# Altium footprint library Connector_JST.PcbLib: 558 footprints (part 31 of 35)
Each footprint in its own frame and in the unit in brackets; x right, y up, seen from the top. Pads: shape width x height; smd on the part's side, far side on the other; paste and mask are expansions set on the pad; w line width, h text height; cw(c..) or ccw(c..) is an arc to the next point about the centre after c.
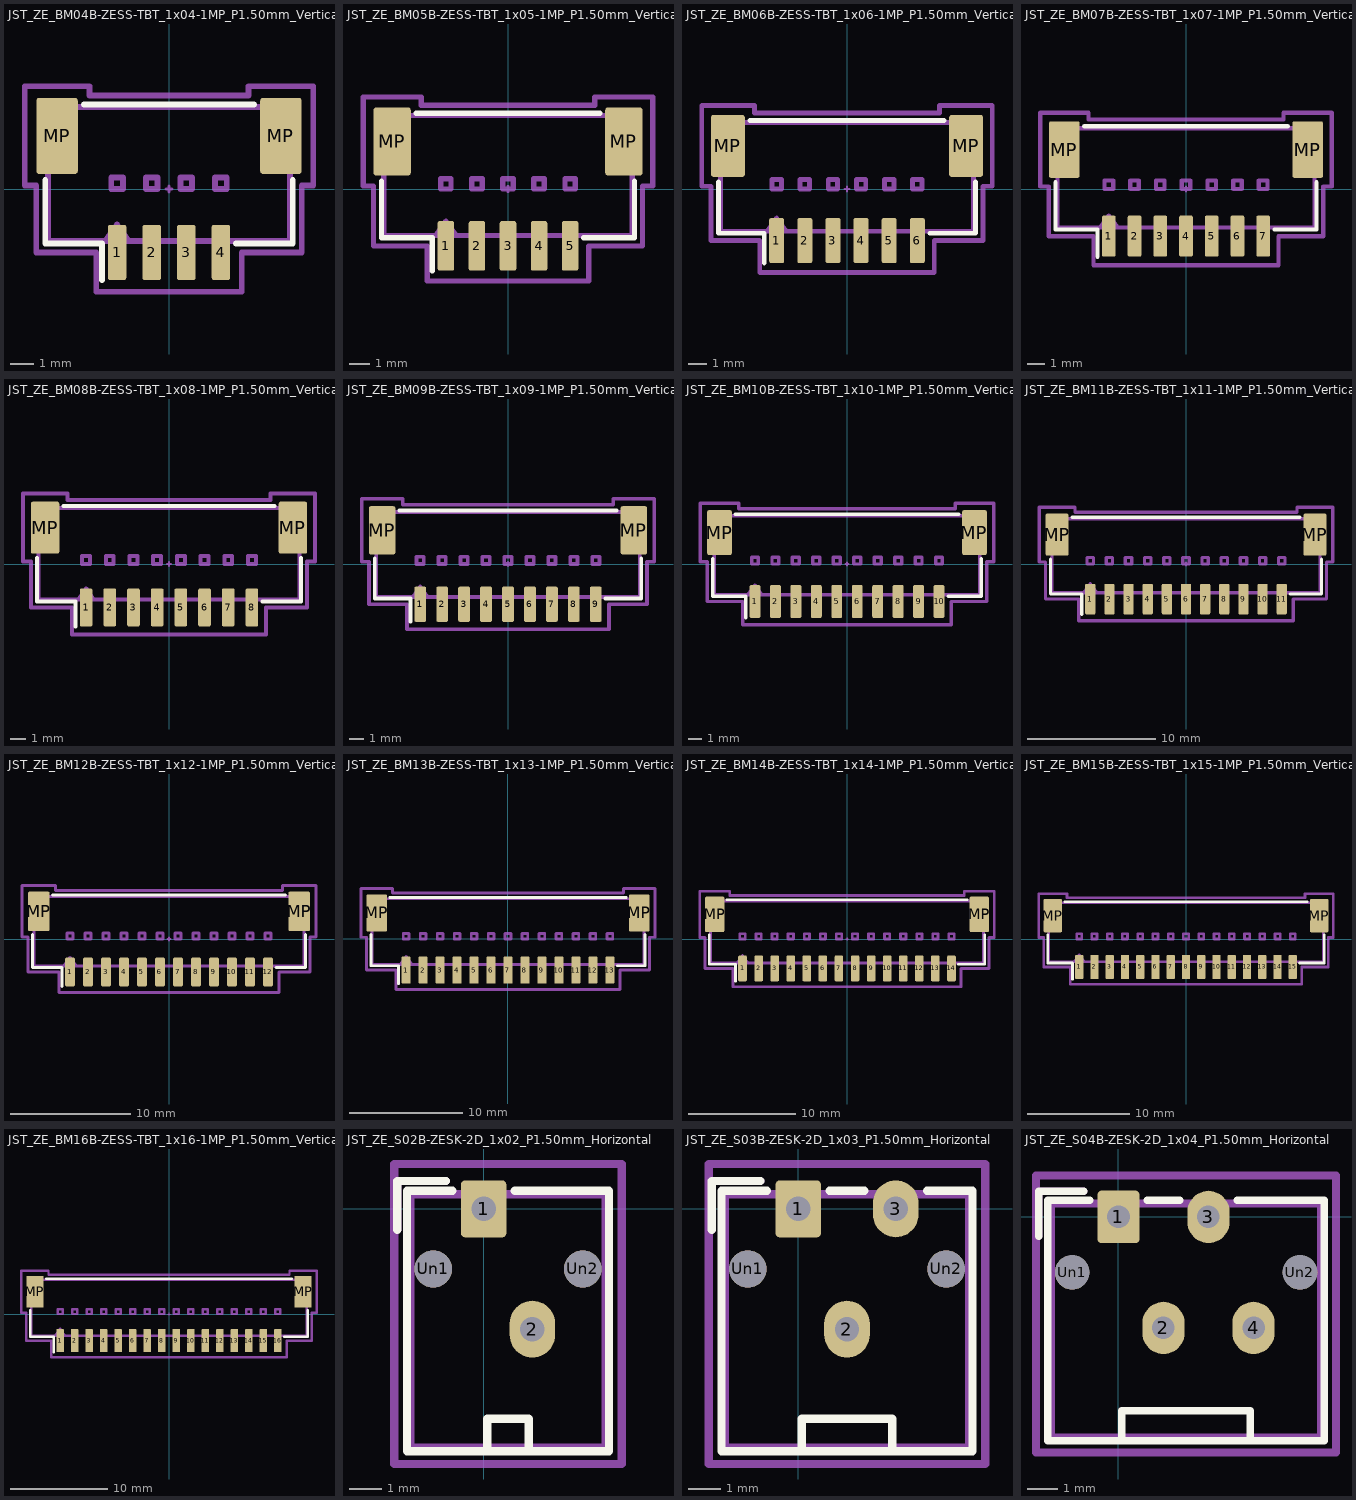
[diagram p30: the footprints below, top view; thin cyan lines are the x and y axes]

## JST_ZE_BM04B-ZESS-TBT_1x04-1MP_P1.50mm_Vertical [mm] "JST_ZE_BM04B-ZESS-TBT_1x04-1MP_P1.50mm_Vertical"
pads (6):
  rrect25% 0.8x2.4 smd: 1(-2.25,-2.75) 2(-0.75,-2.75) 3(0.75,-2.75) 4(2.25,-2.75)
  rrect14% 1.8x3.3 smd: MP(-4.85,2.3) MP(4.85,2.3)
F.SilkS:
  lines w0.254: -5.36,0.39 -5.36,-2.36 -2.91,-2.36 -2.91,-3.95 ; -3.69,3.66 3.69,3.66 ; 2.91,-2.36 5.36,-2.36 5.36,0.39
Top Component Center:
  lines w0.127: -0.127,0 0.127,0 ; 0,-0.127 0,0.127
Top Assembly:
  lines w0.254: -2.75,-2.25 -2.25,-1.543 -1.75,-2.25 ; -5.25,-2.25 -5.25,3.55 5.25,3.55 5.25,-2.25 -5.25,-2.25 ; -2.5,0 -2.5,0.5 -2,0.5 -2,0 -2.5,0 ; -1,0 -1,0.5 -0.5,0.5 -0.5,0 -1,0 ; 0.5,0 0.5,0.5 1,0.5 1,0 0.5,0 ; 2,0 2,0.5 2.5,0.5 2.5,0 2,0
Top Courtyard:
  lines w0.254: -6.25,0.15 -6.25,4.45 -3.44,4.45 -3.44,4.05 3.44,4.05 3.44,4.45 6.25,4.45 6.25,0.15 5.75,0.15 5.75,-2.75 3.15,-2.75 3.15,-4.45 -3.15,-4.45 -3.15,-2.75 -5.75,-2.75 -5.75,0.15 -6.25,0.15
Top Designator:
  text ".Designator" at -3.43,1.561 h1.52

## JST_ZE_BM05B-ZESS-TBT_1x05-1MP_P1.50mm_Vertical [mm] "JST_ZE_BM05B-ZESS-TBT_1x05-1MP_P1.50mm_Vertical"
pads (7):
  rrect25% 0.8x2.4 smd: 1(-3,-2.75) 2(-1.5,-2.75) 3(0,-2.75) 4(1.5,-2.75) 5(3,-2.75)
  rrect14% 1.8x3.3 smd: MP(-5.6,2.3) MP(5.6,2.3)
F.SilkS:
  lines w0.254: -6.11,0.39 -6.11,-2.36 -3.66,-2.36 -3.66,-3.95 ; -4.44,3.66 4.44,3.66 ; 3.66,-2.36 6.11,-2.36 6.11,0.39
Top Component Center:
  lines w0.127: -0.127,0 0.127,0 ; 0,-0.127 0,0.127
Top Assembly:
  lines w0.254: -3.5,-2.25 -3,-1.543 -2.5,-2.25 ; -6,-2.25 6,-2.25 6,3.55 -6,3.55 -6,-2.25 ; -3.25,0 -2.75,0 -2.75,0.5 -3.25,0.5 -3.25,0 ; -1.75,0 -1.25,0 -1.25,0.5 -1.75,0.5 -1.75,0 ; -0.25,0 0.25,0 0.25,0.5 -0.25,0.5 -0.25,0 ; 1.25,0 1.75,0 1.75,0.5 1.25,0.5 1.25,0 ; 2.75,0 3.25,0 3.25,0.5 2.75,0.5 2.75,0
Top Courtyard:
  lines w0.254: -7,0.15 -6.5,0.15 -6.5,-2.75 -3.9,-2.75 -3.9,-4.45 3.9,-4.45 3.9,-2.75 6.5,-2.75 6.5,0.15 7,0.15 7,4.45 4.19,4.45 4.19,4.05 -4.19,4.05 -4.19,4.45 -7,4.45 -7,0.15
Top Designator:
  text ".Designator" at -3.303,1.307 h1.52

## JST_ZE_BM06B-ZESS-TBT_1x06-1MP_P1.50mm_Vertical [mm] "JST_ZE_BM06B-ZESS-TBT_1x06-1MP_P1.50mm_Vertical"
pads (8):
  rrect25% 0.8x2.4 smd: 1(-3.75,-2.75) 2(-2.25,-2.75) 3(-0.75,-2.75) 4(0.75,-2.75) 5(2.25,-2.75) 6(3.75,-2.75)
  rrect14% 1.8x3.3 smd: MP(-6.35,2.3) MP(6.35,2.3)
F.SilkS:
  lines w0.254: -6.86,0.39 -6.86,-2.36 -4.41,-2.36 -4.41,-3.95 ; -5.19,3.66 5.19,3.66 ; 4.41,-2.36 6.86,-2.36 6.86,0.39
Top Component Center:
  lines w0.127: -0.127,0 0.127,0 ; 0,-0.127 0,0.127
Top Assembly:
  lines w0.254: -4.25,-2.25 -3.75,-1.543 -3.25,-2.25 ; -6.75,-2.25 6.75,-2.25 6.75,3.55 -6.75,3.55 -6.75,-2.25 ; -4,0 -3.5,0 -3.5,0.5 -4,0.5 -4,0 ; -2.5,0 -2,0 -2,0.5 -2.5,0.5 -2.5,0 ; -1,0 -0.5,0 -0.5,0.5 -1,0.5 -1,0 ; 0.5,0 1,0 1,0.5 0.5,0.5 0.5,0 ; 2,0 2.5,0 2.5,0.5 2,0.5 2,0 ; 3.5,0 4,0 4,0.5 3.5,0.5 3.5,0
Top Courtyard:
  lines w0.254: -7.75,0.15 -7.25,0.15 -7.25,-2.75 -4.65,-2.75 -4.65,-4.45 4.65,-4.45 4.65,-2.75 7.25,-2.75 7.25,0.15 7.75,0.15 7.75,4.45 4.94,4.45 4.94,4.05 -4.94,4.05 -4.94,4.45 -7.75,4.45 -7.75,0.15
Top Designator:
  text ".Designator" at -3.43,1.688 h1.52

## JST_ZE_BM07B-ZESS-TBT_1x07-1MP_P1.50mm_Vertical [mm] "JST_ZE_BM07B-ZESS-TBT_1x07-1MP_P1.50mm_Vertical"
pads (9):
  rrect25% 0.8x2.4 smd: 1(-4.5,-2.75) 2(-3,-2.75) 3(-1.5,-2.75) 4(0,-2.75) 5(1.5,-2.75) 6(3,-2.75) 7(4.5,-2.75)
  rrect14% 1.8x3.3 smd: MP(-7.1,2.3) MP(7.1,2.3)
F.SilkS:
  lines w0.254: -7.61,0.39 -7.61,-2.36 -5.16,-2.36 -5.16,-3.95 ; -5.94,3.66 5.94,3.66 ; 5.16,-2.36 7.61,-2.36 7.61,0.39
Top Component Center:
  lines w0.127: -0.127,0 0.127,0 ; 0,-0.127 0,0.127
Top Assembly:
  lines w0.254: -5,-2.25 -4.5,-1.543 -4,-2.25 ; -7.5,-2.25 7.5,-2.25 7.5,3.55 -7.5,3.55 -7.5,-2.25 ; -4.75,0 -4.25,0 -4.25,0.5 -4.75,0.5 -4.75,0 ; -3.25,0 -2.75,0 -2.75,0.5 -3.25,0.5 -3.25,0 ; -1.75,0 -1.25,0 -1.25,0.5 -1.75,0.5 -1.75,0 ; -0.25,0 0.25,0 0.25,0.5 -0.25,0.5 -0.25,0 ; 1.25,0 1.25,0.5 1.75,0.5 1.75,0 1.25,0 ; 2.75,0 3.25,0 3.25,0.5 2.75,0.5 2.75,0 ; 4.25,0 4.75,0 4.75,0.5 4.25,0.5 4.25,0
Top Courtyard:
  lines w0.254: -8.5,0.15 -8,0.15 -8,-2.75 -5.4,-2.75 -5.4,-4.45 5.4,-4.45 5.4,-2.75 8,-2.75 8,0.15 8.5,0.15 8.5,4.45 5.69,4.45 5.69,4.05 -5.69,4.05 -5.69,4.45 -8.5,4.45 -8.5,0.15
Top Designator:
  text ".Designator" at -3.303,1.561 h1.52

## JST_ZE_BM08B-ZESS-TBT_1x08-1MP_P1.50mm_Vertical [mm] "JST_ZE_BM08B-ZESS-TBT_1x08-1MP_P1.50mm_Vertical"
pads (10):
  rrect25% 0.8x2.4 smd: 1(-5.25,-2.75) 2(-3.75,-2.75) 3(-2.25,-2.75) 4(-0.75,-2.75) 5(0.75,-2.75) 6(2.25,-2.75) 7(3.75,-2.75) 8(5.25,-2.75)
  rrect14% 1.8x3.3 smd: MP(-7.85,2.3) MP(7.85,2.3)
F.SilkS:
  lines w0.254: -8.36,0.39 -8.36,-2.36 -5.91,-2.36 -5.91,-3.95 ; -6.69,3.66 6.69,3.66 ; 5.91,-2.36 8.36,-2.36 8.36,0.39
Top Component Center:
  lines w0.127: -0.127,0 0.127,0 ; 0,-0.127 0,0.127
Top Assembly:
  lines w0.254: -5.75,-2.25 -5.25,-1.543 -4.75,-2.25 ; -8.25,-2.25 8.25,-2.25 8.25,3.55 -8.25,3.55 -8.25,-2.25 ; -5.5,0 -5,0 -5,0.5 -5.5,0.5 -5.5,0 ; -4,0 -3.5,0 -3.5,0.5 -4,0.5 -4,0 ; -2.5,0 -2,0 -2,0.5 -2.5,0.5 -2.5,0 ; -1,0 -0.5,0 -0.5,0.5 -1,0.5 -1,0 ; 0.5,0 1,0 1,0.5 0.5,0.5 0.5,0 ; 2,0 2.5,0 2.5,0.5 2,0.5 2,0 ; 3.5,0 4,0 4,0.5 3.5,0.5 3.5,0 ; 5,0 5.5,0 5.5,0.5 5,0.5 5,0
Top Courtyard:
  lines w0.254: -9.25,0.15 -8.75,0.15 -8.75,-2.75 -6.15,-2.75 -6.15,-4.45 6.15,-4.45 6.15,-2.75 8.75,-2.75 8.75,0.15 9.25,0.15 9.25,4.45 6.44,4.45 6.44,4.05 -6.44,4.05 -6.44,4.45 -9.25,4.45 -9.25,0.15
Top Designator:
  text ".Designator" at -3.557,1.688 h1.52

## JST_ZE_BM09B-ZESS-TBT_1x09-1MP_P1.50mm_Vertical [mm] "JST_ZE_BM09B-ZESS-TBT_1x09-1MP_P1.50mm_Vertical"
pads (11):
  rrect25% 0.8x2.4 smd: 1(-6,-2.75) 2(-4.5,-2.75) 3(-3,-2.75) 4(-1.5,-2.75) 5(0,-2.75) 6(1.5,-2.75) 7(3,-2.75) 8(4.5,-2.75) 9(6,-2.75)
  rrect14% 1.8x3.3 smd: MP(-8.6,2.3) MP(8.6,2.3)
F.SilkS:
  lines w0.254: -9.11,0.39 -9.11,-2.36 -6.66,-2.36 -6.66,-3.95 ; -7.44,3.66 7.44,3.66 ; 6.66,-2.36 9.11,-2.36 9.11,0.39
Top Component Center:
  lines w0.127: -0.127,0 0.127,0 ; 0,-0.127 0,0.127
Top Assembly:
  lines w0.254: -6.5,-2.25 -6,-1.543 -5.5,-2.25 ; -9,-2.25 9,-2.25 9,3.55 -9,3.55 -9,-2.25 ; -6.25,0 -5.75,0 -5.75,0.5 -6.25,0.5 -6.25,0 ; -4.75,0 -4.25,0 -4.25,0.5 -4.75,0.5 -4.75,0 ; -3.25,0 -2.75,0 -2.75,0.5 -3.25,0.5 -3.25,0 ; -1.75,0 -1.25,0 -1.25,0.5 -1.75,0.5 -1.75,0 ; -0.25,0 0.25,0 0.25,0.5 -0.25,0.5 -0.25,0 ; 1.25,0 1.75,0 1.75,0.5 1.25,0.5 1.25,0 ; 2.75,0 3.25,0 3.25,0.5 2.75,0.5 2.75,0 ; 4.25,0 4.75,0 4.75,0.5 4.25,0.5 4.25,0 ; 5.75,0 6.25,0 6.25,0.5 5.75,0.5 5.75,0
Top Courtyard:
  lines w0.254: -10,0.15 -9.5,0.15 -9.5,-2.75 -6.9,-2.75 -6.9,-4.45 6.9,-4.45 6.9,-2.75 9.5,-2.75 9.5,0.15 10,0.15 10,4.45 7.19,4.45 7.19,4.05 -7.19,4.05 -7.19,4.45 -10,4.45 -10,0.15
Top Designator:
  text ".Designator" at -3.303,1.434 h1.52

## JST_ZE_BM10B-ZESS-TBT_1x10-1MP_P1.50mm_Vertical [mm] "JST_ZE_BM10B-ZESS-TBT_1x10-1MP_P1.50mm_Vertical"
pads (12):
  rrect25% 0.8x2.4 smd: 1(-6.75,-2.75) 2(-5.25,-2.75) 3(-3.75,-2.75) 4(-2.25,-2.75) 5(-0.75,-2.75) 6(0.75,-2.75) 7(2.25,-2.75) 8(3.75,-2.75) 9(5.25,-2.75) 10(6.75,-2.75)
  rrect14% 1.8x3.3 smd: MP(-9.35,2.3) MP(9.35,2.3)
F.SilkS:
  lines w0.254: -9.86,0.39 -9.86,-2.36 -7.41,-2.36 -7.41,-3.95 ; -8.19,3.66 8.19,3.66 ; 7.41,-2.36 9.86,-2.36 9.86,0.39
Top Component Center:
  lines w0.127: -0.127,0 0.127,0 ; 0,-0.127 0,0.127
Top Assembly:
  lines w0.254: -7.25,-2.25 -6.75,-1.543 -6.25,-2.25 ; -9.75,-2.25 -9.75,3.55 9.75,3.55 9.75,-2.25 -9.75,-2.25 ; -7,0 -7,0.5 -6.5,0.5 -6.5,0 -7,0 ; -5.5,0 -5.5,0.5 -5,0.5 -5,0 -5.5,0 ; -4,0 -4,0.5 -3.5,0.5 -3.5,0 -4,0 ; -2.5,0 -2.5,0.5 -2,0.5 -2,0 -2.5,0 ; -1,0 -1,0.5 -0.5,0.5 -0.5,0 -1,0 ; 0.5,0 0.5,0.5 1,0.5 1,0 0.5,0 ; 2,0 2,0.5 2.5,0.5 2.5,0 2,0 ; 3.5,0 3.5,0.5 4,0.5 4,0 3.5,0 ; 5,0 5,0.5 5.5,0.5 5.5,0 5,0 ; 6.5,0 6.5,0.5 7,0.5 7,0 6.5,0
Top Courtyard:
  lines w0.254: -10.75,0.15 -10.75,4.45 -7.94,4.45 -7.94,4.05 7.94,4.05 7.94,4.45 10.75,4.45 10.75,0.15 10.25,0.15 10.25,-2.75 7.65,-2.75 7.65,-4.45 -7.65,-4.45 -7.65,-2.75 -10.25,-2.75 -10.25,0.15 -10.75,0.15
Top Designator:
  text ".Designator" at -3.684,1.815 h1.52

## JST_ZE_BM11B-ZESS-TBT_1x11-1MP_P1.50mm_Vertical [mm] "JST_ZE_BM11B-ZESS-TBT_1x11-1MP_P1.50mm_Vertical"
pads (13):
  rrect25% 0.8x2.4 smd: 1(-7.5,-2.75) 2(-6,-2.75) 3(-4.5,-2.75) 4(-3,-2.75) 5(-1.5,-2.75) 6(0,-2.75) 7(1.5,-2.75) 8(3,-2.75) 9(4.5,-2.75) 10(6,-2.75) 11(7.5,-2.75)
  rrect14% 1.8x3.3 smd: MP(-10.1,2.3) MP(10.1,2.3)
F.SilkS:
  lines w0.254: -10.61,0.39 -10.61,-2.36 -8.16,-2.36 -8.16,-3.95 ; -8.94,3.66 8.94,3.66 ; 8.16,-2.36 10.61,-2.36 10.61,0.39
Top Component Center:
  lines w0.127: -0.127,0 0.127,0 ; 0,-0.127 0,0.127
Top Assembly:
  lines w0.254: -8,-2.25 -7.5,-1.543 -7,-2.25 ; -10.5,-2.25 10.5,-2.25 10.5,3.55 -10.5,3.55 -10.5,-2.25 ; -7.75,0 -7.25,0 -7.25,0.5 -7.75,0.5 -7.75,0 ; -6.25,0 -5.75,0 -5.75,0.5 -6.25,0.5 -6.25,0 ; -4.75,0 -4.25,0 -4.25,0.5 -4.75,0.5 -4.75,0 ; -3.25,0 -2.75,0 -2.75,0.5 -3.25,0.5 -3.25,0 ; -1.75,0 -1.25,0 -1.25,0.5 -1.75,0.5 -1.75,0 ; -0.25,0 0.25,0 0.25,0.5 -0.25,0.5 -0.25,0 ; 1.25,0 1.75,0 1.75,0.5 1.25,0.5 1.25,0 ; 2.75,0 3.25,0 3.25,0.5 2.75,0.5 2.75,0 ; 4.25,0 4.75,0 4.75,0.5 4.25,0.5 4.25,0 ; 5.75,0 6.25,0 6.25,0.5 5.75,0.5 5.75,0 ; 7.25,0 7.75,0 7.75,0.5 7.25,0.5 7.25,0
Top Courtyard:
  lines w0.254: -11.5,0.15 -11,0.15 -11,-2.75 -8.4,-2.75 -8.4,-4.45 8.4,-4.45 8.4,-2.75 11,-2.75 11,0.15 11.5,0.15 11.5,4.45 8.7,4.45 8.7,4.05 -8.7,4.05 -8.7,4.45 -11.5,4.45 -11.5,0.15
Top Designator:
  text ".Designator" at -3.303,1.561 h1.52

## JST_ZE_BM12B-ZESS-TBT_1x12-1MP_P1.50mm_Vertical [mm] "JST_ZE_BM12B-ZESS-TBT_1x12-1MP_P1.50mm_Vertical"
pads (14):
  rrect25% 0.8x2.4 smd: 1(-8.25,-2.75) 2(-6.75,-2.75) 3(-5.25,-2.75) 4(-3.75,-2.75) 5(-2.25,-2.75) 6(-0.75,-2.75) 7(0.75,-2.75) 8(2.25,-2.75) 9(3.75,-2.75) 10(5.25,-2.75) 11(6.75,-2.75) 12(8.25,-2.75)
  rrect14% 1.8x3.3 smd: MP(-10.85,2.3) MP(10.85,2.3)
F.SilkS:
  lines w0.254: -11.36,0.39 -11.36,-2.36 -8.91,-2.36 -8.91,-3.95 ; -9.69,3.66 9.69,3.66 ; 8.91,-2.36 11.36,-2.36 11.36,0.39
Top Component Center:
  lines w0.127: -0.127,0 0.127,0 ; 0,-0.127 0,0.127
Top Assembly:
  lines w0.254: -8.75,-2.25 -8.25,-1.543 -7.75,-2.25 ; -11.25,-2.25 -11.25,3.55 11.25,3.55 11.25,-2.25 -11.25,-2.25 ; -8.5,0 -8.5,0.5 -8,0.5 -8,0 -8.5,0 ; -7,0 -7,0.5 -6.5,0.5 -6.5,0 -7,0 ; -5.5,0 -5.5,0.5 -5,0.5 -5,0 -5.5,0 ; -4,0 -4,0.5 -3.5,0.5 -3.5,0 -4,0 ; -2.5,0 -2.5,0.5 -2,0.5 -2,0 -2.5,0 ; -1,0 -1,0.5 -0.5,0.5 -0.5,0 -1,0 ; 0.5,0 0.5,0.5 1,0.5 1,0 0.5,0 ; 2,0 2,0.5 2.5,0.5 2.5,0 2,0 ; 3.5,0 3.5,0.5 4,0.5 4,0 3.5,0 ; 5,0 5,0.5 5.5,0.5 5.5,0 5,0 ; 6.5,0 6.5,0.5 7,0.5 7,0 6.5,0 ; 8,0 8,0.5 8.5,0.5 8.5,0 8,0
Top Courtyard:
  lines w0.254: -12.25,0.15 -12.25,4.45 -9.45,4.45 -9.45,4.05 9.45,4.05 9.45,4.45 12.25,4.45 12.25,0.15 11.75,0.15 11.75,-2.75 9.15,-2.75 9.15,-4.45 -9.15,-4.45 -9.15,-2.75 -11.75,-2.75 -11.75,0.15 -12.25,0.15
Top Designator:
  text ".Designator" at -3.43,1.815 h1.52

## JST_ZE_BM13B-ZESS-TBT_1x13-1MP_P1.50mm_Vertical [mm] "JST_ZE_BM13B-ZESS-TBT_1x13-1MP_P1.50mm_Vertical"
pads (15):
  rrect25% 0.8x2.4 smd: 1(-9,-2.75) 2(-7.5,-2.75) 3(-6,-2.75) 4(-4.5,-2.75) 5(-3,-2.75) 6(-1.5,-2.75) 7(0,-2.75) 8(1.5,-2.75) 9(3,-2.75) 10(4.5,-2.75) 11(6,-2.75) 12(7.5,-2.75) 13(9,-2.75)
  rrect14% 1.8x3.3 smd: MP(-11.6,2.3) MP(11.6,2.3)
F.SilkS:
  lines w0.254: -12.11,0.39 -12.11,-2.36 -9.66,-2.36 -9.66,-3.95 ; -10.44,3.66 10.44,3.66 ; 9.66,-2.36 12.11,-2.36 12.11,0.39
Top Component Center:
  lines w0.127: -0.127,0 0.127,0 ; 0,-0.127 0,0.127
Top Assembly:
  lines w0.254: -9.5,-2.25 -9,-1.543 -8.5,-2.25 ; -12,-2.25 -12,3.55 12,3.55 12,-2.25 -12,-2.25 ; -9.25,0 -9.25,0.5 -8.75,0.5 -8.75,0 -9.25,0 ; -7.75,0 -7.75,0.5 -7.25,0.5 -7.25,0 -7.75,0 ; -6.25,0 -6.25,0.5 -5.75,0.5 -5.75,0 -6.25,0 ; -4.75,0 -4.75,0.5 -4.25,0.5 -4.25,0 -4.75,0 ; -3.25,0 -3.25,0.5 -2.75,0.5 -2.75,0 -3.25,0 ; -1.75,0 -1.75,0.5 -1.25,0.5 -1.25,0 -1.75,0 ; -0.25,0 -0.25,0.5 0.25,0.5 0.25,0 -0.25,0 ; 1.25,0 1.25,0.5 1.75,0.5 1.75,0 1.25,0 ; 2.75,0 2.75,0.5 3.25,0.5 3.25,0 2.75,0 ; 4.25,0 4.25,0.5 4.75,0.5 4.75,0 4.25,0 ; 5.75,0 5.75,0.5 6.25,0.5 6.25,0 5.75,0 ; 7.25,0 7.25,0.5 7.75,0.5 7.75,0 7.25,0 ; 8.75,0 8.75,0.5 9.25,0.5 9.25,0 8.75,0
Top Courtyard:
  lines w0.254: -13,0.15 -13,4.45 -10.2,4.45 -10.2,4.05 10.2,4.05 10.2,4.45 13,4.45 13,0.15 12.5,0.15 12.5,-2.75 9.9,-2.75 9.9,-4.45 -9.9,-4.45 -9.9,-2.75 -12.5,-2.75 -12.5,0.15 -13,0.15
Top Designator:
  text ".Designator" at -3.43,1.561 h1.52

## JST_ZE_BM14B-ZESS-TBT_1x14-1MP_P1.50mm_Vertical [mm] "JST_ZE_BM14B-ZESS-TBT_1x14-1MP_P1.50mm_Vertical"
pads (16):
  rrect25% 0.8x2.4 smd: 1(-9.75,-2.75) 2(-8.25,-2.75) 3(-6.75,-2.75) 4(-5.25,-2.75) 5(-3.75,-2.75) 6(-2.25,-2.75) 7(-0.75,-2.75) 8(0.75,-2.75) 9(2.25,-2.75) 10(3.75,-2.75) 11(5.25,-2.75) 12(6.75,-2.75) 13(8.25,-2.75) 14(9.75,-2.75)
  rrect14% 1.8x3.3 smd: MP(-12.35,2.3) MP(12.35,2.3)
F.SilkS:
  lines w0.254: -12.86,0.39 -12.86,-2.36 -10.41,-2.36 -10.41,-3.95 ; -11.19,3.66 11.19,3.66 ; 10.41,-2.36 12.86,-2.36 12.86,0.39
Top Component Center:
  lines w0.127: -0.127,0 0.127,0 ; 0,-0.127 0,0.127
Top Assembly:
  lines w0.254: -10.25,-2.25 -9.75,-1.543 -9.25,-2.25 ; -12.75,-2.25 12.75,-2.25 12.75,3.55 -12.75,3.55 -12.75,-2.25 ; -10,0 -9.5,0 -9.5,0.5 -10,0.5 -10,0 ; -8.5,0 -8,0 -8,0.5 -8.5,0.5 -8.5,0 ; -7,0 -6.5,0 -6.5,0.5 -7,0.5 -7,0 ; -5.5,0 -5,0 -5,0.5 -5.5,0.5 -5.5,0 ; -4,0 -3.5,0 -3.5,0.5 -4,0.5 -4,0 ; -2.5,0 -2,0 -2,0.5 -2.5,0.5 -2.5,0 ; -1,0 -0.5,0 -0.5,0.5 -1,0.5 -1,0 ; 0.5,0 1,0 1,0.5 0.5,0.5 0.5,0 ; 2,0 2.5,0 2.5,0.5 2,0.5 2,0 ; 3.5,0 4,0 4,0.5 3.5,0.5 3.5,0 ; 5,0 5.5,0 5.5,0.5 5,0.5 5,0 ; 6.5,0 7,0 7,0.5 6.5,0.5 6.5,0 ; 8,0 8.5,0 8.5,0.5 8,0.5 8,0 ; 9.5,0 10,0 10,0.5 9.5,0.5 9.5,0
Top Courtyard:
  lines w0.254: -13.75,0.15 -13.25,0.15 -13.25,-2.75 -10.65,-2.75 -10.65,-4.45 10.65,-4.45 10.65,-2.75 13.25,-2.75 13.25,0.15 13.75,0.15 13.75,4.45 10.95,4.45 10.95,4.05 -10.95,4.05 -10.95,4.45 -13.75,4.45 -13.75,0.15
Top Designator:
  text ".Designator" at -3.684,2.069 h1.52

## JST_ZE_BM15B-ZESS-TBT_1x15-1MP_P1.50mm_Vertical [mm] "JST_ZE_BM15B-ZESS-TBT_1x15-1MP_P1.50mm_Vertical"
pads (17):
  rrect25% 0.8x2.4 smd: 1(-10.5,-2.75) 2(-9,-2.75) 3(-7.5,-2.75) 4(-6,-2.75) 5(-4.5,-2.75) 6(-3,-2.75) 7(-1.5,-2.75) 8(0,-2.75) 9(1.5,-2.75) 10(3,-2.75) 11(4.5,-2.75) 12(6,-2.75) 13(7.5,-2.75) 14(9,-2.75) 15(10.5,-2.75)
  rrect14% 1.8x3.3 smd: MP(-13.1,2.3) MP(13.1,2.3)
F.SilkS:
  lines w0.254: -13.61,0.39 -13.61,-2.36 -11.16,-2.36 -11.16,-3.95 ; -11.94,3.66 11.94,3.66 ; 11.16,-2.36 13.61,-2.36 13.61,0.39
Top Component Center:
  lines w0.127: -0.127,0 0.127,0 ; 0,-0.127 0,0.127
Top Assembly:
  lines w0.254: -11,-2.25 -10.5,-1.543 -10,-2.25 ; -13.5,-2.25 -13.5,3.55 13.5,3.55 13.5,-2.25 -13.5,-2.25 ; -10.75,0 -10.75,0.5 -10.25,0.5 -10.25,0 -10.75,0 ; -9.25,0 -9.25,0.5 -8.75,0.5 -8.75,0 -9.25,0 ; -7.75,0 -7.75,0.5 -7.25,0.5 -7.25,0 -7.75,0 ; -6.25,0 -6.25,0.5 -5.75,0.5 -5.75,0 -6.25,0 ; -4.75,0 -4.75,0.5 -4.25,0.5 -4.25,0 -4.75,0 ; -3.25,0 -3.25,0.5 -2.75,0.5 -2.75,0 -3.25,0 ; -1.75,0 -1.75,0.5 -1.25,0.5 -1.25,0 -1.75,0 ; -0.25,0 -0.25,0.5 0.25,0.5 0.25,0 -0.25,0 ; 1.25,0 1.25,0.5 1.75,0.5 1.75,0 1.25,0 ; 2.75,0 2.75,0.5 3.25,0.5 3.25,0 2.75,0 ; 4.25,0 4.25,0.5 4.75,0.5 4.75,0 4.25,0 ; 5.75,0 5.75,0.5 6.25,0.5 6.25,0 5.75,0 ; 7.25,0 7.25,0.5 7.75,0.5 7.75,0 7.25,0 ; 8.75,0 8.75,0.5 9.25,0.5 9.25,0 8.75,0 ; 10.25,0 10.25,0.5 10.75,0.5 10.75,0 10.25,0
Top Courtyard:
  lines w0.254: -14.5,0.15 -14.5,4.45 -11.7,4.45 -11.7,4.05 11.7,4.05 11.7,4.45 14.5,4.45 14.5,0.15 14,0.15 14,-2.75 11.4,-2.75 11.4,-4.45 -11.4,-4.45 -11.4,-2.75 -14,-2.75 -14,0.15 -14.5,0.15
Top Designator:
  text ".Designator" at -3.684,1.561 h1.52

## JST_ZE_BM16B-ZESS-TBT_1x16-1MP_P1.50mm_Vertical [mm] "JST_ZE_BM16B-ZESS-TBT_1x16-1MP_P1.50mm_Vertical"
pads (18):
  rrect25% 0.8x2.4 smd: 1(-11.25,-2.75) 2(-9.75,-2.75) 3(-8.25,-2.75) 4(-6.75,-2.75) 5(-5.25,-2.75) 6(-3.75,-2.75) 7(-2.25,-2.75) 8(-0.75,-2.75) 9(0.75,-2.75) 10(2.25,-2.75) 11(3.75,-2.75) 12(5.25,-2.75) 13(6.75,-2.75) 14(8.25,-2.75) 15(9.75,-2.75) 16(11.25,-2.75)
  rrect14% 1.8x3.3 smd: MP(-13.85,2.3) MP(13.85,2.3)
F.SilkS:
  lines w0.254: -14.36,0.39 -14.36,-2.36 -11.91,-2.36 -11.91,-3.95 ; -12.69,3.66 12.69,3.66 ; 11.91,-2.36 14.36,-2.36 14.36,0.39
Top Component Center:
  lines w0.127: -0.127,0 0.127,0 ; 0,-0.127 0,0.127
Top Assembly:
  lines w0.254: -11.75,-2.25 -11.25,-1.543 -10.75,-2.25 ; -14.25,-2.25 14.25,-2.25 14.25,3.55 -14.25,3.55 -14.25,-2.25 ; -11.5,0 -11,0 -11,0.5 -11.5,0.5 -11.5,0 ; -10,0 -9.5,0 -9.5,0.5 -10,0.5 -10,0 ; -8.5,0 -8,0 -8,0.5 -8.5,0.5 -8.5,0 ; -7,0 -6.5,0 -6.5,0.5 -7,0.5 -7,0 ; -5.5,0 -5,0 -5,0.5 -5.5,0.5 -5.5,0 ; -4,0 -3.5,0 -3.5,0.5 -4,0.5 -4,0 ; -2.5,0 -2,0 -2,0.5 -2.5,0.5 -2.5,0 ; -1,0 -0.5,0 -0.5,0.5 -1,0.5 -1,0 ; 0.5,0 1,0 1,0.5 0.5,0.5 0.5,0 ; 2,0 2.5,0 2.5,0.5 2,0.5 2,0 ; 3.5,0 4,0 4,0.5 3.5,0.5 3.5,0 ; 5,0 5.5,0 5.5,0.5 5,0.5 5,0 ; 6.5,0 7,0 7,0.5 6.5,0.5 6.5,0 ; 8,0 8.5,0 8.5,0.5 8,0.5 8,0 ; 9.5,0 10,0 10,0.5 9.5,0.5 9.5,0 ; 11,0 11.5,0 11.5,0.5 11,0.5 11,0
Top Courtyard:
  lines w0.254: -15.25,0.15 -14.75,0.15 -14.75,-2.75 -12.15,-2.75 -12.15,-4.45 12.15,-4.45 12.15,-2.75 14.75,-2.75 14.75,0.15 15.25,0.15 15.25,4.45 12.45,4.45 12.45,4.05 -12.45,4.05 -12.45,4.45 -15.25,4.45 -15.25,0.15
Top Designator:
  text ".Designator" at -3.43,2.069 h1.52

## JST_ZE_S02B-ZESK-2D_1x02_P1.50mm_Horizontal [mm] "JST_ZE_S02B-ZESK-2D_1x02_P1.50mm_Horizontal"
pads (4):
  rrect18% 1.4x1.75 hole 0.75: 1(0,0)
  rrect100% 1.4x1.75 hole 0.75: 2(1.5,-3.7)
  round 1.15 hole 1.15: Un1(-1.55,-1.85) Un2(3.05,-1.85)
F.SilkS:
  lines w0.254: -2.66,-0.64 -2.66,0.86 -1.16,0.86 ; -0.96,0.56 -2.36,0.56 -2.36,-7.46 3.86,-7.46 3.86,0.56 0.96,0.56 ; 0.11,-7.46 0.11,-6.46 1.39,-6.46 1.39,-7.46
Top Component Center:
  lines w0.127: -0.127,0 0.127,0 ; 0,-0.127 0,0.127
Top Assembly:
  lines w0.254: -2.66,-0.64 -2.66,0.86 -1.16,0.86 ; -2.25,-7.35 3.75,-7.35 3.75,0.45 -2.25,0.45 -2.25,-7.35
Top Courtyard:
  lines w0.254: -2.75,-7.85 4.25,-7.85 4.25,1.38 -2.75,1.38 -2.75,-7.85
Top Designator:
  text ".Designator" at -1.106,-0.507 h1.52

## JST_ZE_S03B-ZESK-2D_1x03_P1.50mm_Horizontal [mm] "JST_ZE_S03B-ZESK-2D_1x03_P1.50mm_Horizontal"
pads (5):
  rrect18% 1.4x1.75 hole 0.75: 1(0,0)
  rrect100% 1.4x1.75 hole 0.75: 2(1.5,-3.7) 3(3,0)
  round 1.15 hole 1.15: Un1(-1.55,-1.85) Un2(4.55,-1.85)
F.SilkS:
  lines w0.254: -2.66,-0.64 -2.66,0.86 -1.16,0.86 ; -0.96,0.56 -2.36,0.56 -2.36,-7.46 5.36,-7.46 5.36,0.56 3.96,0.56 ; 0.11,-7.46 0.11,-6.46 2.89,-6.46 2.89,-7.46 ; 0.96,0.56 2.04,0.56
Top Component Center:
  lines w0.127: -0.127,0 0.127,0 ; 0,-0.127 0,0.127
Top Assembly:
  lines w0.254: -2.66,-0.64 -2.66,0.86 -1.16,0.86 ; -2.25,-7.35 5.25,-7.35 5.25,0.45 -2.25,0.45 -2.25,-7.35
Top Courtyard:
  lines w0.254: -2.75,-7.85 5.75,-7.85 5.75,1.38 -2.75,1.38 -2.75,-7.85
Top Designator:
  text ".Designator" at -1.906,-5.678 h1.52

## JST_ZE_S04B-ZESK-2D_1x04_P1.50mm_Horizontal [mm] "JST_ZE_S04B-ZESK-2D_1x04_P1.50mm_Horizontal"
pads (6):
  rrect18% 1.4x1.75 hole 0.75: 1(0,0)
  rrect100% 1.4x1.75 hole 0.75: 2(1.5,-3.7) 3(3,0) 4(4.5,-3.7)
  round 1.15 hole 1.15: Un1(-1.55,-1.85) Un2(6.05,-1.85)
F.SilkS:
  lines w0.254: -2.66,-0.64 -2.66,0.86 -1.16,0.86 ; -0.96,0.56 -2.36,0.56 -2.36,-7.46 6.86,-7.46 6.86,0.56 3.96,0.56 ; 0.11,-7.46 0.11,-6.46 4.39,-6.46 4.39,-7.46 ; 0.96,0.56 2.04,0.56
Top Component Center:
  lines w0.127: -0.127,0 0.127,0 ; 0,-0.127 0,0.127
Top Assembly:
  lines w0.254: -2.66,-0.64 -2.66,0.86 -1.16,0.86 ; -2.25,-7.35 6.75,-7.35 6.75,0.45 -2.25,0.45 -2.25,-7.35
Top Courtyard:
  lines w0.254: -2.75,-7.85 7.25,-7.85 7.25,1.38 -2.75,1.38 -2.75,-7.85
Top Designator:
  text ".Designator" at -1.017,-5.805 h1.52